# Altium footprint library IC_Transistor.PcbLib: 25 footprints (part 1 of 2)
Each footprint in its own frame and in the unit in brackets; x right, y up, seen from the top. Pads: shape width x height; smd on the part's side, far side on the other; paste and mask are expansions set on the pad; w line width, h text height; cw(c..) or ccw(c..) is an arc to the next point about the centre after c.
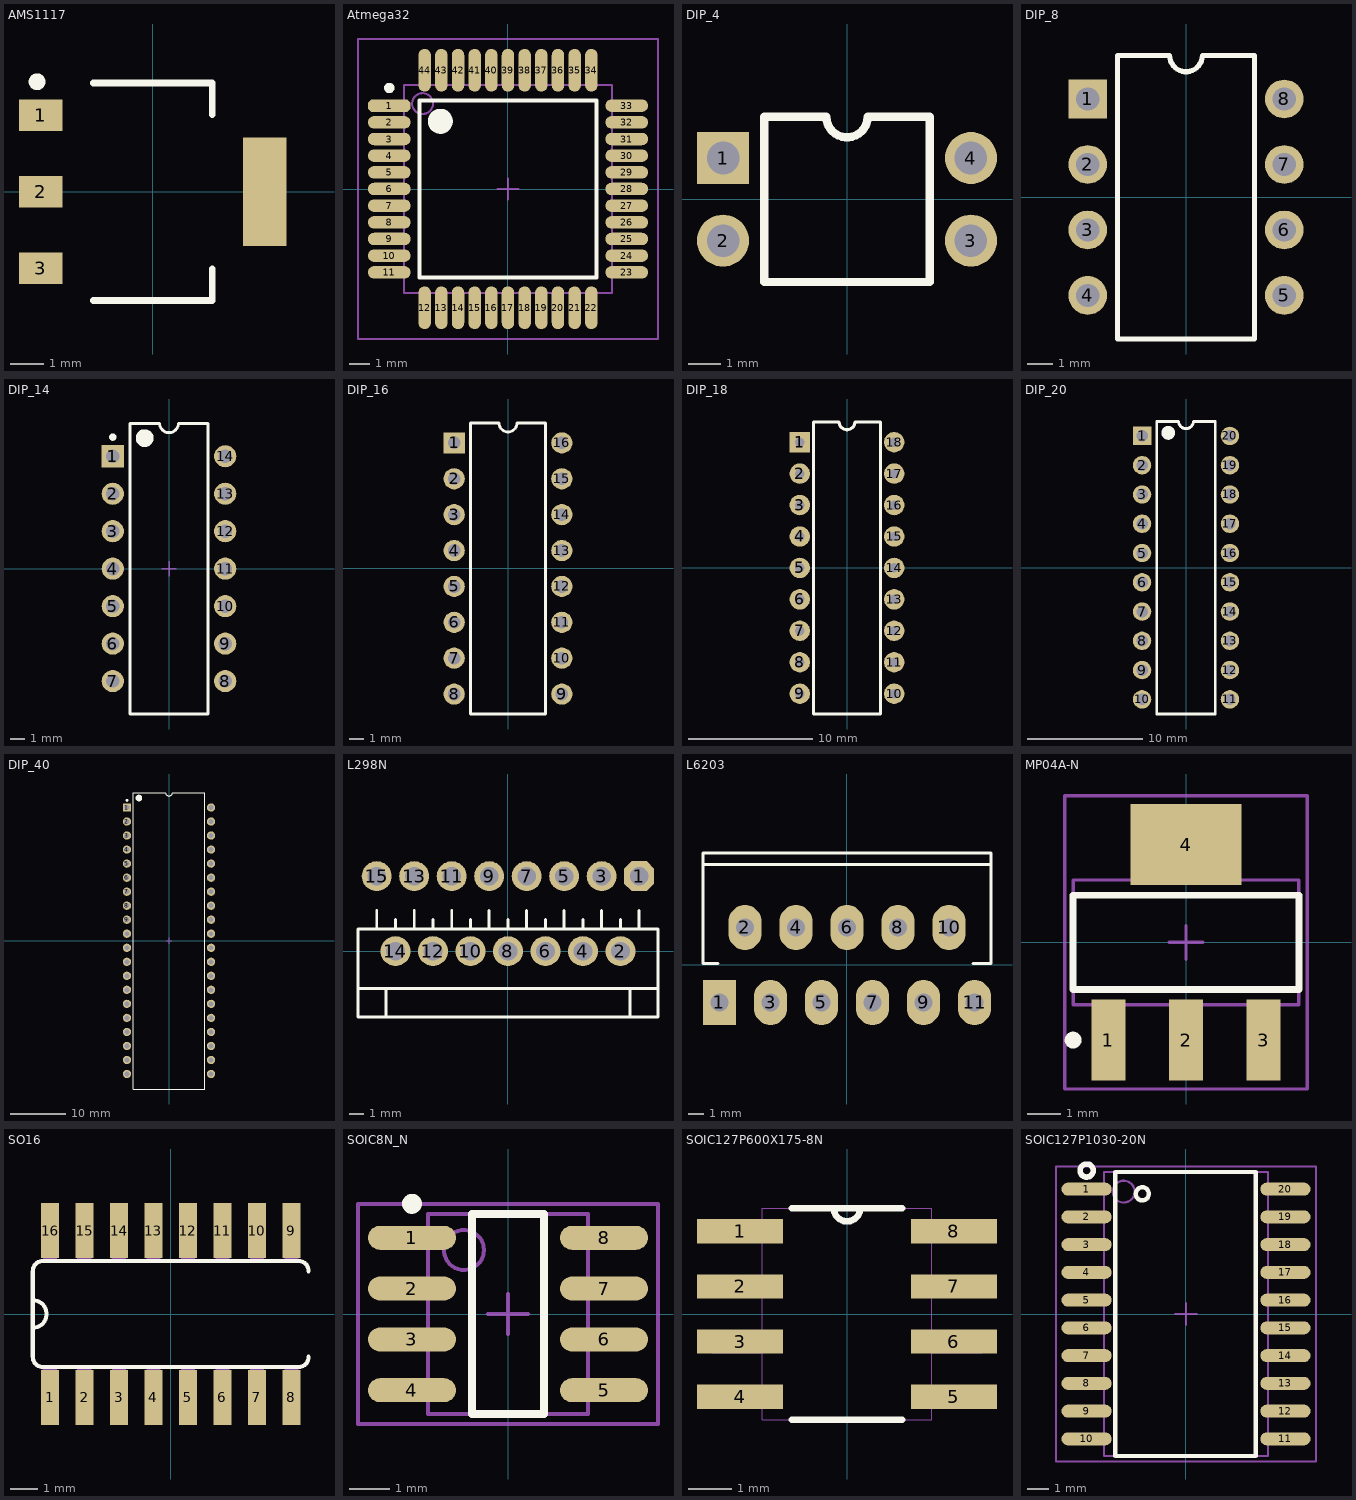
[diagram p0: the footprints below, top view; thin cyan lines are the x and y axes]

## AMS1117 [mm]
pads (4):
  rect 1.3x0.95 smd: 1(-3.35,2.29) 2(-3.35,0) 3(-3.35,-2.29)
  rect 1.3x3.25 smd: ""(3.35,0)
Top Overlay:
  circle w0.25: c-3.46,3.29 r0.125
  lines w0.2: -1.778,-3.252 1.778,-3.252 1.778,-2.302 ; -1.778,3.252 1.778,3.252 1.778,2.302
Mechanical 8:
  lines w0.1: -1.752,-3.252 1.752,-3.252 ; -1.752,3.252 1.752,3.252
3D body "SW3dPS-sot-223.STEP": height 1.64, standoff -0.04, extent -3.466,-3.25 3.466,3.25

## Atmega32 [mm]
height 10.95
pads (44):
  oct 2.05x0.6 smd: 1(-5.7,4)
  oval 2.05x0.6 smd: 2(-5.7,3.2) 3(-5.7,2.4) 4(-5.7,1.6) 5(-5.7,0.8) 6(-5.7,0) 7(-5.7,-0.8) 8(-5.7,-1.6) 9(-5.7,-2.4) 10(-5.7,-3.2) 11(-5.7,-4) 23(5.7,-4) 24(5.7,-3.2) 25(5.7,-2.4) 26(5.7,-1.6) 27(5.7,-0.8) 28(5.7,0) 29(5.7,0.8) 30(5.7,1.6) 31(5.7,2.4) 32(5.7,3.2) 33(5.7,4)
  oval 0.6x2.05 smd: 12(-4,-5.7) 13(-3.2,-5.7) 14(-2.4,-5.7) 15(-1.6,-5.7) 16(-0.8,-5.7) 17(0,-5.7) 18(0.8,-5.7) 19(1.6,-5.7) 20(2.4,-5.7) 21(3.2,-5.7) 22(4,-5.7) 34(4,5.7) 35(3.2,5.7) 36(2.4,5.7) 37(1.6,5.7) 38(0.8,5.7) 39(0,5.7) 40(-0.8,5.7) 41(-1.6,5.7) 42(-2.4,5.7) 43(-3.2,5.7) 44(-4,5.7)
Top Overlay:
  circle w0.6: c-3.25,3.25 r0.3
  circle w0.25: c-5.7,4.85 r0.125
  lines w0.2: -4.25,-4.25 4.25,-4.25 4.25,4.25 -4.25,4.25 -4.25,-4.25
Mechanical 13:
  circle w0.1: c-4.1,4.1 r0.5
  lines w0.1: -5,-5 5,-5 5,5 -5,5 -5,-5
Mechanical 15:
  lines w0.1: -0.5,0 0.5,0 ; 0,-0.5 0,0.5 ; -7.2,-7.2 7.2,-7.2 7.2,7.2 -7.2,7.2 -7.2,-7.2
3D body "User Library-TQFP-44-1.STEP": height 1.1, standoff 0, extent -6,-6 6,6

## DIP_4 [mm]
height 1.2
pads (4):
  rect 1.6x1.6 hole 1: 1(-3.81,1.27)
  round 1.6 hole 1: 2(-3.81,-1.27) 3(3.81,-1.27) 4(3.81,1.27)
Top Overlay:
  lines w0.254: -2.54,-2.54 -2.54,2.54 -0.635,2.54 ccw(c0,2.54) 0.635,2.54 2.54,2.54 2.54,-2.54 -2.54,-2.54
3D body "User Library-DIP-4.SLDPRT": height 4.3, standoff -3, extent -3.935,-2.28 3.935,2.3

## DIP_8 [mm]
pads (8):
  rect 1.5x1.5 hole 0.9: 1(-3.81,3.81)
  round 1.5 hole 0.9: 2(-3.81,1.27) 3(-3.81,-1.27) 4(-3.81,-3.81) 5(3.81,-3.81) 6(3.81,-1.27) 7(3.81,1.27) 8(3.81,3.81)
Top Overlay:
  lines w0.2: -2.65,-5.5 2.65,-5.5 2.65,5.5 0.635,5.5 cw(c0,5.5) -0.635,5.5 -2.65,5.5 -2.65,-5.5
3D body "SW3DPS-DIP8-DEFAULT.STEP": height 4.19, standoff -2.67, extent -3.937,-5.715 3.937,5.715

## DIP_14 [mm] "DIP, 14-Leads, Row Spacing 7.62mm, Pitch 2.54mm, Body 19.2x6.6mm"
height 5.34
pads (14):
  rect 1.5x1.5 hole 0.9: 1(-3.81,7.62)
  round 1.5 hole 0.9: 2(-3.81,5.08) 3(-3.81,2.54) 4(-3.81,0) 5(-3.81,-2.54) 6(-3.81,-5.08) 7(-3.81,-7.62) 8(3.81,-7.62) 9(3.81,-5.08) 10(3.81,-2.54) 11(3.81,0) 12(3.81,2.54) 13(3.81,5.08) 14(3.81,7.62)
Top Overlay:
  circle w0.25: c-3.81,8.92 r0.125
  circle w0.6: c-1.65,8.85 r0.3
  lines w0.2: -2.65,-9.85 -2.65,9.85 -0.635,9.85 ccw(c0,9.85) 0.635,9.85 2.65,9.85 2.65,-9.85 -2.65,-9.85
Mechanical 15:
  lines w0.1: -0.5,0 0.5,0 ; 0,-0.5 0,0.5
3D body "User Library-DIP14-300-metric.STEP": height 4.5, standoff -3.5, extent -3.88,-9.05 3.88,9.05

## DIP_16 [mm] "DIP; 16 Leads; Row Spacing 7.62 mm; Pitch 2.54 mm"
height 5.1
pads (16):
  rect 1.5x1.5 hole 0.9: 1(-3.81,8.89)
  round 1.5 hole 0.9: 2(-3.81,6.35) 3(-3.81,3.81) 4(-3.81,1.27) 5(-3.81,-1.27) 6(-3.81,-3.81) 7(-3.81,-6.35) 8(-3.81,-8.89) 9(3.81,-8.89) 10(3.81,-6.35) 11(3.81,-3.81) 12(3.81,-1.27) 13(3.81,1.27) 14(3.81,3.81) 15(3.81,6.35) 16(3.81,8.89)
Top Overlay:
  lines w0.2: -2.65,-10.3 -2.65,10.3 -0.635,10.3 ccw(c0,10.3) 0.635,10.3 2.65,10.3 2.65,-10.3 -2.65,-10.3
3D body "SW3dPS-DIP16-300.step": height 5.08, standoff -2.49, extent -3.935,-10 3.935,10

## DIP_18 [mil]
pads (18):
  rect 65x65 hole 30: 1(-150,400)
  round 65 hole 30: 2(-150,300) 3(-150,200) 4(-150,100) 5(-150,0) 6(-150,-100) 7(-150,-200) 8(-150,-300) 9(-150,-400) 10(150,-400) 11(150,-300) 12(150,-200) 13(150,-100) 14(150,0) 15(150,100) 16(150,200) 17(150,300) 18(150,400)
Top Overlay:
  lines w10: -106.3,-464.57 106.3,-464.57 106.3,464.57 25,464.57 cw(c0,464.57) -25,464.57 -106.3,464.57 -106.3,-464.57
3D body "SW3dPS-DIP18-300.step": height 200, standoff -98.03, extent -154.92,-452.56 154.92,452.56

## DIP_20 [mm]
height 2.8
pads (20):
  rect 1.6x1.6 hole 1: 1(-3.81,11.43)
  round 1.6 hole 1: 2(-3.81,8.89) 3(-3.81,6.35) 4(-3.81,3.81) 5(-3.81,1.27) 6(-3.81,-1.27) 7(-3.81,-3.81) 8(-3.81,-6.35) 9(-3.81,-8.89) 10(-3.81,-11.43) 11(3.81,-11.43) 12(3.81,-8.89) 13(3.81,-6.35) 14(3.81,-3.81) 15(3.81,-1.27) 16(3.81,1.27) 17(3.81,3.81) 18(3.81,6.35) 19(3.81,8.89) 20(3.81,11.43)
Top Overlay:
  circle w0.6: c-1.54,11.7 r0.3
  lines w0.254: -2.54,-12.7 2.54,-12.7 2.54,12.7 0.635,12.7 cw(c0,12.7) -0.635,12.7 -2.54,12.7 -2.54,-12.7
3D body "User Library-DIP20.STEP": height 4.57, standoff -3.81, extent -3.91,-13.27 3.91,13.27

## DIP_40 [mm] "DIP, 40-Leads, Row Spacing 15.24mm, Pitch 2.54mm, Body 51.8x13.5mm"
height 6.35
pads (40):
  rect 1.5x1.5 hole 0.9: 1(-7.62,24.13)
  round 1.5 hole 0.9: 2(-7.62,21.59) 3(-7.62,19.05) 4(-7.62,16.51) 5(-7.62,13.97) 6(-7.62,11.43) 7(-7.62,8.89) 8(-7.62,6.35) 9(-7.62,3.81) 10(-7.62,1.27) 11(-7.62,-1.27) 12(-7.62,-3.81) 13(-7.62,-6.35) 14(-7.62,-8.89) 15(-7.62,-11.43) 16(-7.62,-13.97) 17(-7.62,-16.51) 18(-7.62,-19.05) 19(-7.62,-21.59) 20(-7.62,-24.13) 21(7.62,-24.13) 22(7.62,-21.59) 23(7.62,-19.05) 24(7.62,-16.51) 25(7.62,-13.97) 26(7.62,-11.43) 27(7.62,-8.89) 28(7.62,-6.35) 29(7.62,-3.81) 30(7.62,-1.27) 31(7.62,1.27) 32(7.62,3.81) 33(7.62,6.35) 34(7.62,8.89) 35(7.62,11.43) 36(7.62,13.97) 37(7.62,16.51) 38(7.62,19.05) 39(7.62,21.59) 40(7.62,24.13)
Top Overlay:
  circle w0.6: c-5.45,25.85 r0.3
  circle w0.25: c-7.62,25.43 r0.125
  lines w0.2: -6.45,-26.85 6.45,-26.85 6.45,26.85 0.635,26.85 cw(c0,26.85) -0.635,26.85 -6.45,26.85 -6.45,-26.85
Mechanical 15:
  lines w0.1: -0.5,0 0.5,0 ; 0,-0.5 0,0.5
3D body "SW3dPS-DIP40-600.STEP": height 5.7, standoff -2.58, extent -7.745,-26.225 7.745,26.225

## L298N [mil]
pads (15):
  oct 80x80 hole 50: 1(350,200)
  round 80 hole 50: 2(300,0) 3(250,200) 4(200,0) 5(150,200) 6(100,0) 7(50,200) 8(0,0) 9(-50,200) 10(-100,0) 11(-150,200) 12(-200,0) 13(-250,200) 14(-300,0) 15(-350,200)
Top Overlay:
  lines w7.87: -350,59.09 -350,109.09 ; -325,-175 -325,-100 ; -300,59.09 -300,84.09 ; -250,59.09 -250,109.09 ; -200,59.09 -200,84.09 ; -150,59.09 -150,109.09 ; -100,59.09 -100,84.09 ; -50,59.09 -50,109.09 ; 0,59.09 0,84.09 ; 50,59.09 50,109.09 ; 100,59.09 100,84.09 ; 150,59.09 150,109.09 ; 200,59.09 200,84.09 ; 250,59.09 250,109.09 ; 300,59.09 300,84.09 ; 325,-175 325,-100 ; 350,59.09 350,109.09 ; 400,-100 -400,-100 ; 400,59.09 -400,59.09 -400,-100 ; 400.16,59.09 400,-83.33 400,-175 -400,-175 -400,-100
3D body "User Library-Multiwatt15V.SLDPRT": height 838.58, standoff -39.37, extent -385.83,-175 385.83,214.37

## L6203 [mm]
height 10.95
pads (11):
  rect 2.2x3 hole 1.2: 1(-8.5,-2.5)
  oval 2.2x3 hole 1.2: 2(-6.8,2.5) 3(-5.1,-2.5) 4(-3.4,2.5) 5(-1.7,-2.5) 6(0,2.5) 7(1.7,-2.5) 8(3.4,2.5) 9(5.1,-2.5) 10(6.8,2.5) 11(8.5,-2.5)
Top Overlay:
  lines w0.2: -9.56,6.69 9.6,6.69 ; -8.6,0.1 -9.6,0.1 -9.6,7.466 9.6,7.466 9.6,0.1 8.4,0.1
3D body "User Library-Multiwatt11V.STEP": height 21.8, standoff -3.2, extent -10.1,-3 10.1,6.89

## MP04A-N [mm]
pads (4):
  rect 1x2.4 smd: 1(-2.3,-2.9) 2(0,-2.9) 3(2.3,-2.9)
  rect 3.3x2.4 smd: 4(0,2.9)
Top Overlay:
  circle w0.25: c-3.35,-2.9 r0.125
  lines w0.2: -3.35,-1.4 -3.35,1.4 3.35,1.4 3.35,-1.4 -3.35,-1.4
Mechanical 13:
  lines w0.1: -3.35,-1.85 -3.35,1.85 3.35,1.85 3.35,-1.85 -3.35,-1.85
Mechanical 15:
  lines w0.1: -0.5,0 0.5,0 ; 0,-0.5 0,0.5 ; -3.6,-4.35 -3.6,4.35 3.6,4.35 3.6,-4.35 -3.6,-4.35
3D body "CircuitWorks-SOT-223.SLDPRT": height 1.66, standoff -0.02, extent -3.25,-3.48 3.25,3.48

## SO16 [mil]
pads (16):
  rect 26x80 smd: 1(-175,-121) 2(-125,-121) 3(-75,-121) 4(-25,-121) 5(25,-121) 6(75,-121) 7(125,-121) 8(175,-121) 9(175,121) 10(125,121) 11(75,121) 12(25,121) 13(-25,121) 14(-75,121) 15(-125,121) 16(-175,121)
Top Overlay:
  lines w6: 200,-62 cw(c185,-62) 185,-77 -185,-77 cw(c-185,-62) -200,-62 -200,-20 ; 200,62 ccw(c185,62) 185,77 -185,77 ccw(c-185,62) -200,62 -200,20 ; -200,-20 ccw(c-200,0) -200,20 ; -200,-20 -200,20
Mechanical 1:
  region: 165.54,122 185,122 185,77.25 165.54,77.25
  region: 115.5,122 135,122 135,77.34 115.5,77.34
  region: 65.19,122 85,122 85,77.22 65.19,77.22
  region: 15.03,122 35,122 35,77.17 15.03,77.17
  region: 165.25,-77 185,-77 185,-122.19 165.25,-122.19
  region: 115.51,-77 135,-77 135,-122.54 115.51,-122.54
  region: 65.2,-77 85,-77 85,-122.38 65.2,-122.38
  region: 15.05,-77 35,-77 35,-122.4 15.05,-122.4
  region: -185.19,122 -165,122 -165,77.08 -185.19,77.08
  region: -135.63,122 -115,122 -115,77.36 -135.63,77.36
  region: -85.36,122 -65,122 -65,77.33 -85.36,77.33
  region: -35.12,-77 -15,-77 -15,-122.41 -35.12,-122.41
  region: -85.11,-76 -65,-76 -65,-121.15 -85.11,-121.15
  region: -135.47,-77 -115,-77 -115,-122.42 -135.47,-122.42
  region: -185.67,-77 -165,-77 -165,-122.44 -185.67,-122.44
  region: -35.1,122 -15,122 -15,77.22 -35.1,77.22
3D body "User Library-so16-1.STEP": height 69.88, standoff 0.46, extent -196.25,-120.8 196.27,120.81

## SOIC8N_N [mm] "SOIC, 8-Leads, Body 4.9x3.9mm, Pitch 1.27mm, IPC Medium Density"
height 1.75
pads (8):
  oval 2.2x0.6 smd: 1(-2.4,1.905) 2(-2.4,0.635) 3(-2.4,-0.635) 4(-2.4,-1.905) 5(2.4,-1.905) 6(2.4,-0.635) 7(2.4,0.635) 8(2.4,1.905)
Top Overlay:
  circle w0.25: c-2.4,2.755 r0.125
  lines w0.2: -0.9,-2.5 0.9,-2.5 0.9,2.5 -0.9,2.5 -0.9,-2.5
Mechanical 13:
  circle w0.1: c-1.1,1.6 r0.5
  lines w0.1: -2,-2.5 2,-2.5 2,2.5 -2,2.5 -2,-2.5
Mechanical 15:
  lines w0.1: -0.5,0 0.5,0 ; 0,-0.5 0,0.5 ; -3.75,-2.75 3.75,-2.75 3.75,2.75 -3.75,2.75 -3.75,-2.75
3D body "User Library-so8-3.SLDPRT": height 1.7, standoff 0, extent -3,-2.45 3,2.45

## SOIC127P600X175-8N [mil]
pads (8):
  rect 78x22 smd: 1(-97,75) 2(-97,25) 3(-97,-25) 4(-97,-75) 5(97,-75) 6(97,-25) 7(97,25) 8(97,75)
Top Overlay:
  lines w6: -50,-96 50,-96 ; -50,96 -12,96 ; 50,96 12,96 ; -12,96 ccw(c0,96) 12,96 ; -12,96 12,96
Mechanical 1:
  lines w0: -12,96 ccw(c0,96) 12,96 ; -12,96 -77,96 -77,-96 77,-96 77,96 12,96 ; -12,96 12,96 ; -122,-85 -77,-85 -77,-65 -122,-65 -122,-85 ; -122,-35 -77,-35 -77,-15 -122,-15 -122,-35 ; -122,15 -77,15 -77,35 -122,35 -122,15 ; -122,65 -77,65 -77,85 -122,85 -122,65 ; 77,-85 122,-85 122,-65 77,-65 77,-85 ; 77,-35 122,-35 122,-15 77,-15 77,-35 ; 77,15 122,15 122,35 77,35 77,15 ; 77,65 122,65 122,85 77,85 77,65
3D body "SOIC-8.stp": height 68.9, standoff 0, extent -119.68,-100 119.68,96.84

## SOIC127P1030-20N [mm] "SOIC, 20-Leads, Body 12.8x7.5mm, Pitch 1.27mm, IPC Medium Density"
height 2.65
pads (20):
  oval 2.3x0.6 smd: 1(-4.55,5.715) 2(-4.55,4.445) 3(-4.55,3.175) 4(-4.55,1.905) 5(-4.55,0.635) 6(-4.55,-0.635) 7(-4.55,-1.905) 8(-4.55,-3.175) 9(-4.55,-4.445) 10(-4.55,-5.715) 11(4.55,-5.715) 12(4.55,-4.445) 13(4.55,-3.175) 14(4.55,-1.905) 15(4.55,-0.635) 16(4.55,0.635) 17(4.55,1.905) 18(4.55,3.175) 19(4.55,4.445) 20(4.55,5.715)
Top Overlay:
  circle w0.2: c-2,5.5 r0.3
  circle w0.25: c-4.55,6.565 r0.3
  lines w0.2: -3.24,-6.5 3.19,-6.5 3.19,6.5 -3.24,6.5 -3.24,-6.5
Mechanical 13:
  circle w0.1: c-2.85,5.6 r0.5
  lines w0.1: -3.75,-6.5 3.75,-6.5 3.75,6.5 -3.75,6.5 -3.75,-6.5
Mechanical 15:
  lines w0.1: -0.5,0 0.5,0 ; 0,-0.5 0,0.5 ; -5.95,-6.75 5.95,-6.75 5.95,6.75 -5.95,6.75 -5.95,-6.75
3D body "SOIC-20 Wide.STEP": height 2.65, standoff 0, extent -5.164,-6.4 5.164,6.4